# EAGLE library part 685119135725 (library Wurth_Elektronik_Electromechanic_Input-Output_Connectors_rev15c)
WR-COM Angled SMT HDMI-19p + M3 flange =>Code : Con_I-O_COM_HDMI_685119135725 <http://katalog.we-online.de/media/images/eican/Con_I-O_COM_HDMI_685119135725_pf2.jpg> Details see: http://katalog.we-online.de/en/em/685_119_135_725 Created 2014-07-09, Karrer Zheng 2014 (C) Würth Elektronik
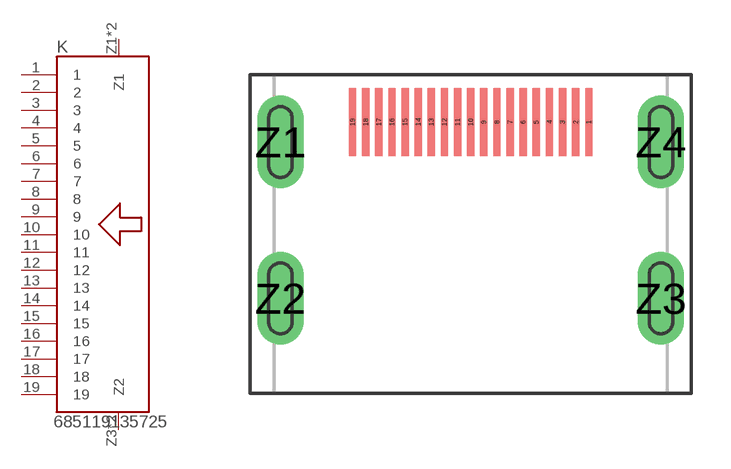
[diagram p149: symbol with the pads of 685119135725; footprint 685119135725]

Designator prefix K

## 685119135725  [685119135725]
1  1
2  2
3  3
4  4
5  5
6  6
7  7
8  8
9  9
10  10
11  11
12  12
13  13
14  14
15  15
16  16
17  17
18  18
19  19
Z1  Z1
Z2  Z1
Z3  Z2
Z4  Z2

## Footprint 685119135725 (pad centres in mm)
smd 0.28 x 2.6: 1 -2.75,0.76; 2 -3.25,0.76; 3 -3.75,0.76; 4 -4.25,0.76; 5 -4.75,0.76; 6 -5.25,0.76; 7 -5.75,0.76; 8 -6.25,0.76; 9 -6.75,0.76; 10 -7.25,0.76; 11 -7.75,0.76; 12 -8.25,0.76; 13 -8.75,0.76; 14 -9.25,0.76; 15 -9.75,0.76; 16 -10.25,0.76; 17 -10.75,0.76; 18 -11.25,0.76; 19 -11.75,0.76
drill 0.9 pad 1.778 long: Z1 -14.5,0; Z2 -14.5,-5.96; Z3 0,-5.96; Z4 0,0